# Altium footprint library DIMM_TE_Connectivity_1473005-4_200POS.PcbLib: 1 footprints
Each footprint in its own frame and in the unit in brackets; x right, y up, seen from the top. Pads: shape width x height; smd on the part's side, far side on the other; paste and mask are expansions set on the pad; w line width, h text height; cw(c..) or ccw(c..) is an arc to the next point about the centre after c.
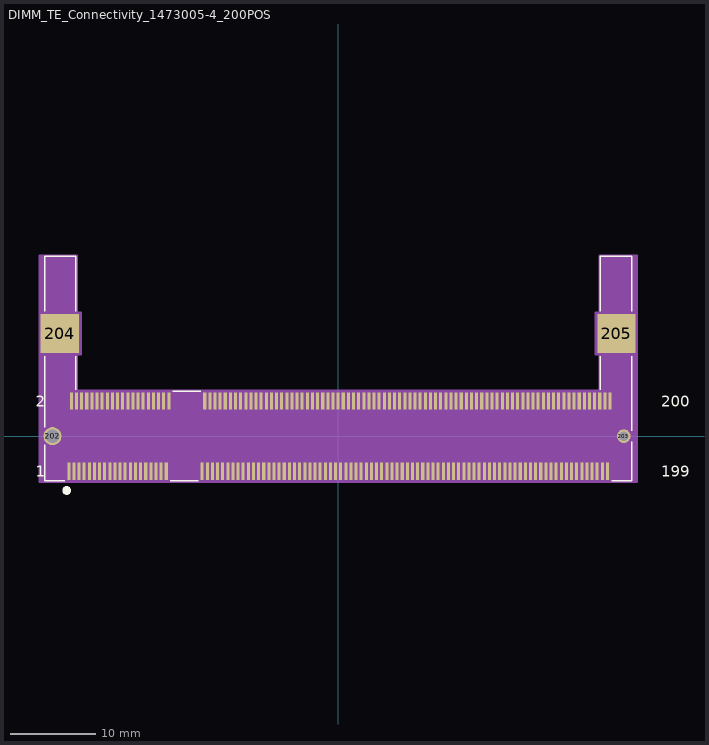
[diagram p0: the footprint, top view; thin cyan lines are the x and y axes]

## DIMM_TE_Connectivity_1473005-4_200POS [mil]
pads (204):
  rect 14x79 smd paste+0 mask+0: 1(-1240.16,-161.5) 2(-1228.35,161.5) 3(-1216.54,-161.5) 4(-1204.73,161.5) 5(-1192.92,-161.5) 6(-1181.11,161.5) 7(-1169.3,-161.5) 8(-1157.49,161.5) 9(-1145.68,-161.5) 10(-1133.87,161.5) 11(-1122.06,-161.5) 12(-1110.25,161.5) 13(-1098.44,-161.5) 14(-1086.63,161.5) 15(-1074.82,-161.5) 16(-1063.01,161.5) 17(-1051.2,-161.5) 18(-1039.39,161.5) 19(-1027.58,-161.5) 20(-1015.77,161.5) 21(-1003.96,-161.5) 22(-992.15,161.5) 23(-980.34,-161.5) 24(-968.53,161.5) 25(-956.72,-161.5) 26(-944.91,161.5) 27(-933.1,-161.5) 28(-921.29,161.5) 29(-909.48,-161.5) 30(-897.67,161.5) 31(-885.86,-161.5) 32(-874.05,161.5) 33(-862.24,-161.5) 34(-850.43,161.5) 35(-838.62,-161.5) 36(-826.81,161.5) 37(-815,-161.5) 38(-803.19,161.5) 39(-791.38,-161.5) 40(-779.57,161.5) 41(-626.03,-161.5) 42(-614.22,161.5) 43(-602.41,-161.5) 44(-590.6,161.5) 45(-578.79,-161.5) 46(-566.98,161.5) 47(-555.17,-161.5) 48(-543.36,161.5) 49(-531.55,-161.5) 50(-519.74,161.5) 51(-507.93,-161.5) 52(-496.12,161.5) 53(-484.31,-161.5) 54(-472.5,161.5) 55(-460.69,-161.5) 56(-448.88,161.5) 57(-437.07,-161.5) 58(-425.26,161.5) 59(-413.45,-161.5) 60(-401.64,161.5) 61(-389.83,-161.5) 62(-378.02,161.5) 63(-366.21,-161.5) 64(-354.4,161.5) 65(-342.59,-161.5) 66(-330.78,161.5) 67(-318.97,-161.5) 68(-307.16,161.5) 69(-295.35,-161.5) 70(-283.54,161.5) 71(-271.73,-161.5) 72(-259.92,161.5) 73(-248.11,-161.5) 74(-236.3,161.5) 75(-224.49,-161.5) 76(-212.68,161.5) 77(-200.87,-161.5) 78(-189.06,161.5) 79(-177.25,-161.5) 80(-165.44,161.5) 81(-153.63,-161.5) 82(-141.82,161.5) 83(-130.01,-161.5) 84(-118.2,161.5) 85(-106.39,-161.5) 86(-94.58,161.5) 87(-82.77,-161.5) 88(-70.96,161.5) 89(-59.15,-161.5) 90(-47.34,161.5) 91(-35.53,-161.5) 92(-23.72,161.5) 93(-11.91,-161.5) 94(-0.1,161.5) 95(11.71,-161.5) 96(23.52,161.5) 97(35.33,-161.5) 98(47.14,161.5) 99(58.95,-161.5) 100(70.76,161.5) 101(82.57,-161.5) 102(94.38,161.5) 103(106.19,-161.5) 104(118,161.5) 105(129.81,-161.5) 106(141.62,161.5) 107(153.43,-161.5) 108(165.24,161.5) 109(177.05,-161.5) 110(188.86,161.5) 111(200.67,-161.5) 112(212.48,161.5) 113(224.29,-161.5) 114(236.1,161.5) 115(247.91,-161.5) 116(259.72,161.5) 117(271.53,-161.5) 118(283.34,161.5) 119(295.15,-161.5) 120(306.96,161.5) 121(318.77,-161.5) 122(330.58,161.5) 123(342.39,-161.5) 124(354.2,161.5) 125(366.01,-161.5) 126(377.82,161.5) 127(389.63,-161.5) 128(401.44,161.5) 129(413.25,-161.5) 130(425.06,161.5) 131(436.87,-161.5) 132(448.68,161.5) 133(460.49,-161.5) 134(472.3,161.5) 135(484.11,-161.5) 136(495.92,161.5) 137(507.73,-161.5) 138(519.54,161.5) 139(531.35,-161.5) 140(543.16,161.5) 141(554.97,-161.5) 142(566.78,161.5) 143(578.59,-161.5) 144(590.4,161.5) 145(602.21,-161.5) 146(614.02,161.5) 147(625.83,-161.5) 148(637.64,161.5) 149(649.45,-161.5) 150(661.26,161.5) 151(673.07,-161.5) 152(684.88,161.5) 153(696.69,-161.5) 154(708.5,161.5) 155(720.31,-161.5) 156(732.12,161.5) 157(743.93,-161.5) 158(755.74,161.5) 159(767.55,-161.5) 160(779.36,161.5) 161(791.17,-161.5) 162(802.98,161.5) 163(814.79,-161.5) 164(826.6,161.5) 165(838.41,-161.5) 166(850.22,161.5) 167(862.03,-161.5) 168(873.84,161.5) 169(885.65,-161.5) 170(897.46,161.5) 171(909.27,-161.5) 172(921.08,161.5) 173(932.89,-161.5) 174(944.7,161.5) 175(956.51,-161.5) 176(968.32,161.5) 177(980.13,-161.5) 178(991.94,161.5) 179(1003.75,-161.5) 180(1015.56,161.5) 181(1027.37,-161.5) 182(1039.18,161.5) 183(1050.99,-161.5) 184(1062.8,161.5) 185(1074.61,-161.5) 186(1086.42,161.5) 187(1098.23,-161.5) 188(1110.04,161.5) 189(1121.85,-161.5) 190(1133.66,161.5) 191(1145.47,-161.5) 192(1157.28,161.5) 193(1169.09,-161.5) 194(1180.9,161.5) 195(1192.71,-161.5) 196(1204.52,161.5) 197(1216.33,-161.5) 198(1228.14,161.5) 199(1239.95,-161.5) 200(1251.76,161.5)
  round 83 hole 63: 202(-1315.04,0)
  round 63 hole 43 mask+0: 203(1314.96,0)
  rect 177x181 smd: 204(-1281.5,472.44) 205(1281.5,472.44)
Top Overlay:
  circle w20: c-1250,-250 r10
  lines w6: -1352,-40.19 -1352,-206 -1259.27,-206 ; -1352,40.19 -1352,368.84 ; -1352,576.04 -1352,827.62 -1207.06,827.62 -1207.06,576.04 ; -1207.06,214.1 -1207.06,368.84 ; -772.27,-206 -645.14,-206 ; -760.46,206 -633.32,206 ; 1207.06,214.1 1207.06,368.84 ; 1207.06,576.04 1207.06,827.62 1352,827.62 1352,576.04 ; 1259.06,-206 1352,-206 1352,-24.85 ; 1352,24.85 1352,368.84
  text "1" at -1392,-186.5 h50
  text "2" at -1392,136.5 h50
  text "199" at 1488,-186.5 h50
  text "200" at 1488,136.5 h50
Mechanical 13:
  circle w0: c-1247.16,-122 r10
  lines w1: -1347,-201 -1347,822.62 -1212.06,822.62 -1212.06,201 1212.06,201 1212.06,822.62 1347,822.62 1347,-201 -1347,-201
  text "1" at -1392,-186.5 h50
  text "2" at -1392,136.5 h50
  text "199" at 1488,-186.5 h50
  text "200" at 1488,136.5 h50
Mechanical 15:
  region: -1202.06,832.62 -1377,832.62 -1377,-211 1377,-211 1377,832.62 1202.06,832.62 1202.06,570.22 1183,570.22 1183,374.22 1202.06,374.22 1202.06,211 -1202.06,211 -1202.06,374.22 -1183,374.22 -1183,570.22 -1202.06,570.22
  lines w6: -1377,-211 -1377,832.62 -1202.06,832.62 -1202.06,570.22 -1183,570.22 -1183,374.22 -1202.06,374.22 -1202.06,211 1202.06,211 1202.06,374.22 1183,374.22 1183,570.22 1202.06,570.22 1202.06,832.62 1377,832.62 1377,-211 -1377,-211
3D body: height 10, standoff 0, extent 0,0 10,10
3D body "c-1473005-4-j1-3d.stp": height 212.36, standoff -19.92, extent -1401.48,-197 1413.48,828.59